# Altium schematic symbol library 1.8 - WiFi天线-SMA射频座.SchLib: 5 symbols
Pins are listed as number, name and electrical type; pins without a type are passive.

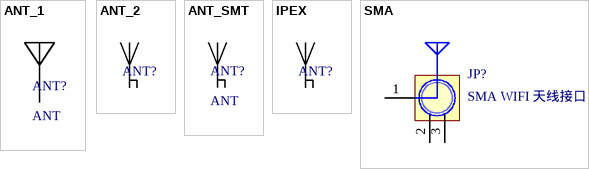
[diagram p0: symbols ANT_1 to SMA]

## ANT_1
designator ANT?, comment ANT
PCB板载天线; 联系卖家，免费技术支持: 唯一出售店铺网址https://shop463601444.taobao.com; BOM名称: PCB板载天线
footprint 2.4GANTF0
footprint 2.4GANTF1
footprint 2.4GANTF2
footprint 2.4GANTF3
footprint 2.4GANTF4
footprint 2.4GANTS0
footprint 2.4GANTS8
footprint 2.4GANTS9
footprint WIFI-ANT
pins: 1

## ANT_2
designator ANT?, comment ANT  (value not drawn)
焊接式天线连接接口
footprint RG178_2:2:1.5 (ANT-SMD_UFL-R-SMT-1-10)
pins: 1, 2

## ANT_SMT
designator ANT?, comment ANT
SMT型射频天线
footprint 2.4G_AB_C03
pins: 1, 2

## IPEX
designator ANT?  (value not drawn)
IPX IPEX 天线连接座
footprint IPEX_2.6x2.6x1.25mm (ANT-SMD_UFL-R-SMT-1-10)
footprint IPEX_1.7x1.7x0.85mm (IPEX-SMD_4P-L1.7-W1.7-LS2.0-L)
pins: 1, 2

## SMA
designator JP?, comment SMA WIFI 天线接口
SMA-2.4G射频天线接口; 联系卖家，免费技术支持: 唯一出售店铺网址https://shop463601444.taobao.com; BOM名称: SMA-2.4G射频天线接口
footprint SMA_FR
footprint SMA-KE (Footprint not found)
footprint SMA-KE-LI (SMA 立式直插射频天线座)
pins: 1 ANT, 2 GND, 3 GND